# EAGLE library part MAX3232* (library transceiver)
RS232 TRANSCEIVER
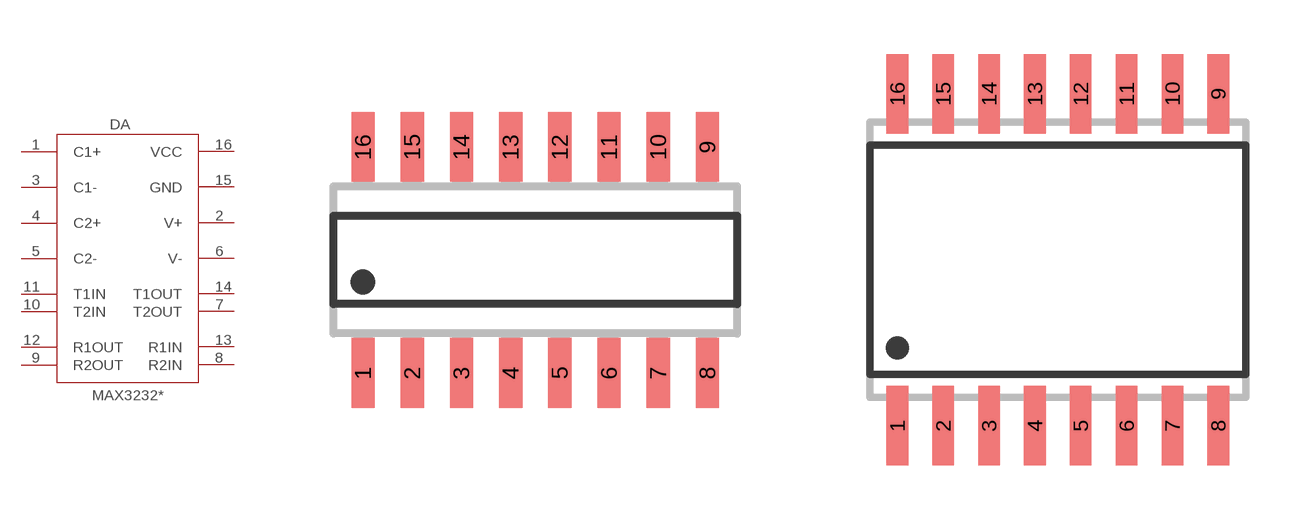
[diagram p1: symbol with the pads of SO16; footprints SO16, SO16W]

Designator prefix DA

## MAX3232D  [SO16]
1  C1+  pas
2  V+  pas
3  C1-  pas
4  C2+  pas
5  C2-  pas
6  V-  pas
7  T2OUT  out
8  R2IN  in
9  R2OUT  out
10  T2IN  in
11  T1IN  in
12  R1OUT  out
13  R1IN  in
14  T1OUT  out
15  GND  pwr
16  VCC  pwr

## MAX3232DW  [SO16W]
Pads as for SO16

## MAX3232DB  [SSOP16]
Pads as for SO16

## MAX3232PW  [TSSOP16]
Pads as for SO16

## Footprint SO16 (pad centres in mm)
SMALL OUTLINE INTEGRATED CIRCUIT body 3.9 mm/JEDEC MS-012AC
smd 0.6 x 1.8: 1 -4.445,-2.917; 2 -3.175,-2.917; 3 -1.905,-2.917; 4 -0.635,-2.917; 5 0.635,-2.917; 6 1.905,-2.917; 7 3.175,-2.917; 8 4.445,-2.917; 9 4.445,2.917; 10 3.175,2.917; 11 1.905,2.917; 12 0.635,2.917; 13 -0.635,2.917; 14 -1.905,2.917; 15 -3.175,2.917; 16 -4.445,2.917

## Footprint SO16W (pad centres in mm)
SMALL OUTLINE INTEGRATED CIRCUIT wide body 7.5 mm/JEDEC MS-013AA
smd 0.6 x 2.2: 1 -4.445,-4.6; 2 -3.175,-4.6; 3 -1.905,-4.6; 4 -0.635,-4.6; 5 0.635,-4.6; 6 1.905,-4.6; 7 3.175,-4.6; 8 4.445,-4.6; 9 4.445,4.6; 10 3.175,4.6; 11 1.905,4.6; 12 0.635,4.6; 13 -0.635,4.6; 14 -1.905,4.6; 15 -3.175,4.6; 16 -4.445,4.6

## Footprint SSOP16 (pad centres in mm)
Shrink Small Outline Package package type SS
smd 0.4 x 1.5: 1 -2.275,-3.625; 2 -1.625,-3.625; 3 -0.975,-3.625; 4 -0.325,-3.625; 5 0.325,-3.625; 6 0.975,-3.625; 7 1.625,-3.625; 8 2.275,-3.625; 9 2.275,3.625; 10 1.625,3.625; 11 0.975,3.625; 12 0.325,3.625; 13 -0.325,3.625; 14 -0.975,3.625; 15 -1.625,3.625; 16 -2.275,3.625

## Footprint TSSOP16 (pad centres in mm)
Thin Shrink Small Outline Plastic 16
smd 0.31 x 1.1: 1 -2.275,-3.08; 2 -1.625,-3.08; 3 -0.975,-3.08; 4 -0.325,-3.08; 5 0.325,-3.08; 6 0.975,-3.08; 7 1.625,-3.08; 8 2.275,-3.08; 9 2.275,3.08; 10 1.625,3.08; 11 0.975,3.08; 12 0.325,3.08; 13 -0.325,3.08; 14 -0.975,3.08; 15 -1.625,3.08; 16 -2.275,3.08